# Altium footprint library WANGYU92100PcbLib.PcbLib: 392 footprints (part 3 of 25)
Each footprint in its own frame and in the unit in brackets; x right, y up, seen from the top. Pads: shape width x height; smd on the part's side, far side on the other; paste and mask are expansions set on the pad; w line width, h text height; cw(c..) or ccw(c..) is an arc to the next point about the centre after c.
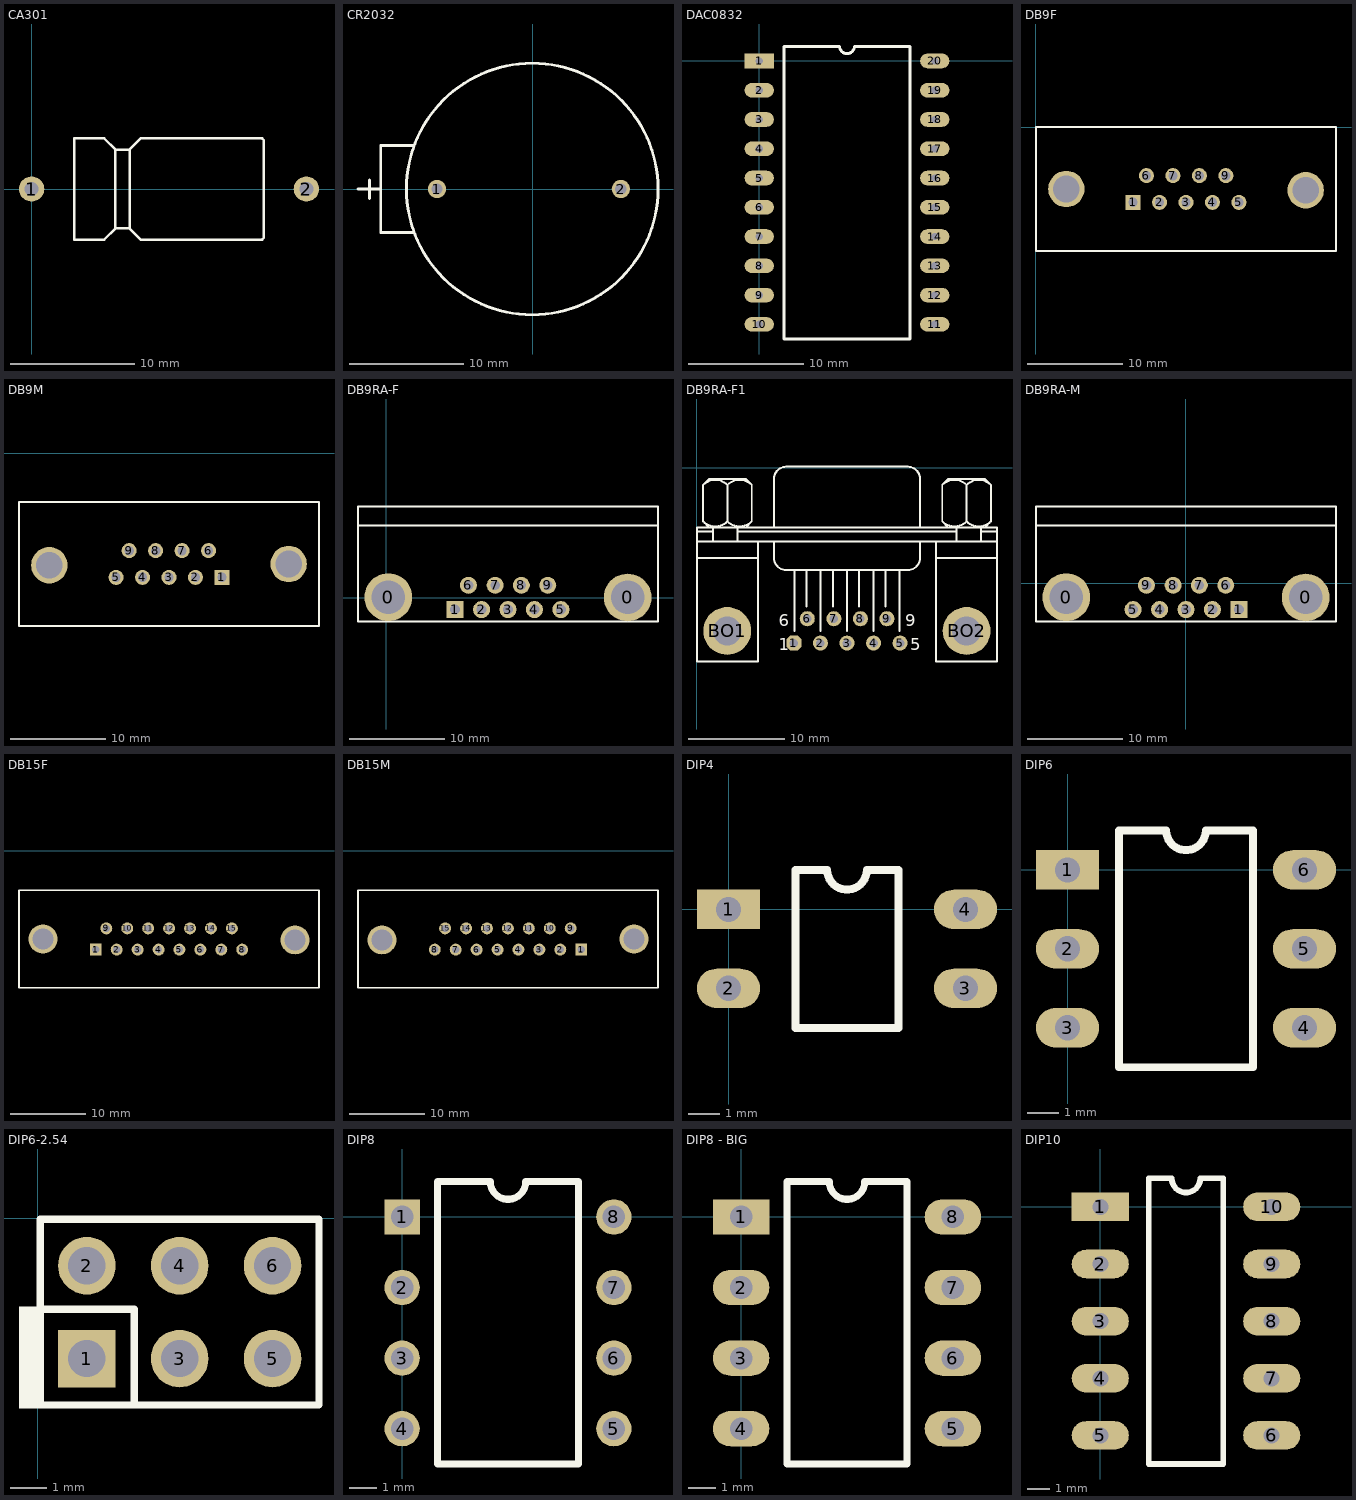
[diagram p2: the footprints below, top view; thin cyan lines are the x and y axes]

## CA301 [mil]
pads (2):
  round 80 hole 45: 1(0,0) 2(870,0)
Top Overlay:
  lines w8: 265,-115 265,-125 ; 265,-125 230,-160 135,-160 135,160 230,160 265,125 ; 265,-125 265,125 ; 265,-125 310,-125 ; 265,125 305,125 310,125 ; 310,-125 310,125 ; 310,-125 345,-160 730,-160 735,-155 735,155 730,160 345,160 310,125

## CR2032 [mm]
pads (2):
  round 1.6 hole 1: 1(-8.382,0) 2(7.7,0)
Top Overlay:
  circle w0.254: c-0.05,0 r11
  lines w0.254: -15.291,0 -13.3,0 ; -14.3,-0.838 -14.3,0.787 ; -10.5,-3.8 -13.3,-3.8 -13.3,3.8 -10.5,3.8

## DAC0832 [mil]
pads (20):
  rect 100x50 hole 25: 1(0,0)
  oval 100x50 hole 25: 2(0,-100) 3(0,-200) 4(0,-300) 5(0,-400) 6(0,-500) 7(0,-600) 8(0,-700) 9(0,-800) 10(0,-900) 11(600,-900) 12(600,-800) 13(600,-700) 14(600,-600) 15(600,-500) 16(600,-400) 17(600,-300) 18(600,-200) 19(600,-100) 20(600,0)
Top Overlay:
  lines w10: 85,-950 85,50 275,50 ccw(c300,50) 325,50 515,50 515,-950 85,-950

## DB9F [mil]
pads (11):
  rect 62x62 hole 38: 1(401,-310)
  round 62 hole 38: 2(510,-310) 3(619,-310) 4(728,-310) 5(837,-310) 6(456,-200) 7(565,-200) 8(674,-200) 9(783,-200)
  round 150 hole 110: ""(126,-255) ""(1112,-260)
Top Overlay:
  lines w8: 1,-510 1237,-510 1237,0 1,0 1,-510

## DB9M [mil]
pads (11):
  rect 62x62 hole 38: 1(1038,-512)
  round 62 hole 38: 2(929,-512) 3(820,-512) 4(711,-512) 5(602,-512) 6(983,-402) 7(874,-402) 8(765,-402) 9(656,-402)
  round 150 hole 110: ""(327,-462) ""(1313,-457)
Top Overlay:
  lines w8: 202,-712 202,-202 1438,-202 1438,-712 202,-712

## DB9RA-F [mil]
pads (11):
  round 196.85 hole 137.79: 0(8,2) 0(994,1)
  rect 70x70 hole 40: 1(283,-49)
  round 70 hole 40: 2(392,-49) 3(501,-49) 4(610,-49) 5(719,-49) 6(338,51) 7(448,51) 8(556,51) 9(665,51)
Top Overlay:
  lines w8: -117,297.26 1119,297.26 ; -117,-98.35 -117,376 1119,376 1119,-98.35 -117,-98.35

## DB9RA-F1 [mil]
pads (11):
  oct 62x62 hole 35: 1(400.26,-720.47)
  round 62 hole 35: 2(509.43,-720.47) 3(618.59,-720.47) 4(727.76,-720.47) 5(836.93,-720.47) 6(455.26,-620.47) 7(564.43,-620.47) 8(673.59,-620.47) 9(782.76,-620.47)
  round 196.67 hole 118.33: BO1(126.09,-670.47) BO2(1110.26,-670.47)
Top Overlay:
  lines w8: 1.93,-370.46 251.93,-370.46 ; 1.93,-303.8 1235.26,-303.8 ; 1.93,-262.13 68.59,-262.13 ; 26.84,-220.55 ccw(c76.93,-170.47) 127.01,-220.55 ; 26.84,-70.38 cw(c76.93,-120.47) 127.01,-70.38 ; 51.93,-245.47 26.93,-220.47 26.93,-70.47 51.93,-45.47 201.93,-45.47 226.93,-70.47 226.93,-220.47 201.93,-245.47 ; 68.59,-303.8 68.59,-245.47 ; 126.84,-220.55 ccw(c176.93,-170.47) 227.01,-220.55 ; 126.84,-70.38 cw(c176.93,-120.47) 227.01,-70.38 ; 126.93,-220.47 126.93,-70.47 ; 168.59,-303.8 168.59,-245.47 ; 168.59,-262.13 1068.59,-262.13 ; 251.93,-303.8 251.93,-795.47 1.93,-795.47 1.93,-245.47 1235.26,-245.47 1235.26,-795.47 985.26,-795.47 985.26,-303.8 ; 318.59,-303.8 318.59,-370.46 ccw(c368.59,-370.46) 368.59,-420.46 868.59,-420.46 ccw(c868.59,-370.46) 918.59,-370.46 918.59,-303.8 ; 318.59,-245.47 318.59,-45.47 cw(c368.59,-45.47) 368.59,4.53 868.59,4.54 cw(c868.59,-45.47) 918.59,-45.47 918.59,-245.47 ; 401.93,-670.47 401.93,-420.46 ; 451.93,-570.47 451.93,-420.46 ; 510.26,-670.47 510.26,-420.46 ; 560.26,-570.47 560.26,-420.46 ; 618.59,-670.47 618.59,-420.46 ; 668.59,-570.47 668.59,-420.46 ; 726.93,-670.47 726.93,-420.46 ; 776.93,-570.47 776.93,-420.46 ; 835.26,-670.47 835.26,-420.46 ; 985.26,-370.46 1235.26,-370.46 ; 1010.17,-220.55 ccw(c1060.26,-170.47) 1110.35,-220.55 ; 1010.17,-70.38 cw(c1060.26,-120.47) 1110.35,-70.38 ; 1035.26,-245.47 1010.26,-220.47 1010.26,-70.47 1035.26,-45.47 1185.26,-45.47 1210.26,-70.47 1210.26,-220.47 1185.26,-245.47 ; 1068.59,-303.8 1068.59,-245.47 ; 1110.17,-220.55 ccw(c1160.26,-170.47) 1210.35,-220.55 ; 1110.17,-70.38 cw(c1160.26,-120.47) 1210.35,-70.38 ; 1110.26,-220.47 1110.26,-70.47 ; 1168.59,-303.8 1168.59,-245.47 ; 1168.59,-262.13 1235.26,-262.13
  text "6" at 338.59,-650.47 h50
  text "1" at 338.59,-750.47 h50
  text "5" at 878.59,-750.47 h50
  text "9" at 858.59,-650.47 h50

## DB9RA-M [mil]
pads (11):
  round 196.85 hole 137.79: 0(-492,-58) 0(494,-59)
  rect 70x70 hole 40: 1(219,-109)
  round 70 hole 40: 2(110,-109) 3(1,-109) 4(-108,-109) 5(-217,-109) 6(165,-9) 7(56,-9) 8(-52,-9) 9(-162,-9)
Top Overlay:
  lines w8: -617,237.26 619,237.26 ; -617,-158.35 619,-158.35 619,316 -617,316 -617,-158.35

## DB15F [mil]
pads (17):
  rect 62x62 hole 38: 1(607,-515)
  round 62 hole 38: 2(716,-515) 3(825,-515) 4(934,-515) 5(1043,-515) 6(1152,-515) 7(1261,-515) 8(1370,-515) 9(662,-405) 10(771,-405) 11(880,-405) 12(989,-405) 13(1098,-405) 14(1207,-405) 15(1316,-405)
  round 150 hole 110: ""(332,-460) ""(1645,-465)
Top Overlay:
  lines w8: 207,-715 1770,-715 1770,-205 207,-205 207,-715

## DB15M [mil]
pads (17):
  rect 62x62 hole 38: 1(1369,-516)
  round 62 hole 38: 2(1260,-516) 3(1151,-516) 4(1042,-516) 5(933,-516) 6(824,-516) 7(715,-516) 8(606,-516) 9(1314,-406) 10(1205,-406) 11(1096,-406) 12(987,-406) 13(878,-406) 14(769,-406) 15(660,-406)
  round 150 hole 110: ""(331,-466) ""(1644,-461)
Top Overlay:
  lines w8: 206,-716 1769,-716 1769,-206 206,-206 206,-716

## DIP4 [mil]
pads (4):
  rect 80x50 hole 32: 1(0,0)
  oval 80x50 hole 32: 2(0,-100) 3(300,-100) 4(300,0)
Top Overlay:
  lines w10: 85,-150 215,-150 215,50 175,50 cw(c150,50) 125,50 85,50 85,-150

## DIP6 [mil]
pads (6):
  rect 80x50 hole 32: 1(0,0)
  oval 80x50 hole 32: 2(0,-100) 3(0,-200) 4(300,-200) 5(300,-100) 6(300,0)
Top Overlay:
  lines w10: 65,-250 65,50 125,50 ccw(c150,50) 175,50 235,50 235,-250 65,-250

## DIP6-2.54 [mil]
pads (6):
  rect 62x62 hole 40: 1(53,-151)
  round 62 hole 40: 2(53,-51) 3(153,-151) 4(153,-51) 5(253,-151) 6(253,-51)
Top Overlay:
  rectangle: -20,-205 3,-95
  lines w8: 3,-98 104,-98 104,-200 ; 3,-201 303,-201 303,-1 3,-1 3,-201

## DIP8 [mil]
pads (8):
  rect 50x50 hole 32: 1(0,0)
  round 50 hole 32: 2(0,-100) 3(0,-200) 4(0,-300) 5(300,-300) 6(300,-200) 7(300,-100) 8(300,0)
Top Overlay:
  lines w10: 50,-350 50,50 125,50 ccw(c150,50) 175,50 250,50 250,-350 50,-350

## DIP8 - BIG [mil]
pads (8):
  rect 80x50 hole 32: 1(0,0)
  oval 80x50 hole 32: 2(0,-100) 3(0,-200) 4(0,-300) 5(300,-300) 6(300,-200) 7(300,-100) 8(300,0)
Top Overlay:
  lines w10: 65,-350 65,50 125,50 ccw(c150,50) 175,50 235,50 235,-350 65,-350

## DIP10 [mil]
pads (10):
  rect 100x50 hole 28: 1(0,0)
  oval 100x50 hole 28: 2(0,-100) 3(0,-200) 4(0,-300) 5(0,-400) 6(300,-400) 7(300,-300) 8(300,-200) 9(300,-100) 10(300,0)
Top Overlay:
  lines w10: 85,-450 215,-450 215,50 175,50 cw(c150,50) 125,50 85,50 85,-450